# Altium footprint library PCB - CRYSTALS - ECS ECS-80-12-33-JGN-TR.PCBLIB: 1 footprints
Each footprint in its own frame and in the unit in brackets; x right, y up, seen from the top. Pads: shape width x height; smd on the part's side, far side on the other; paste and mask are expansions set on the pad; w line width, h text height; cw(c..) or ccw(c..) is an arc to the next point about the centre after c.
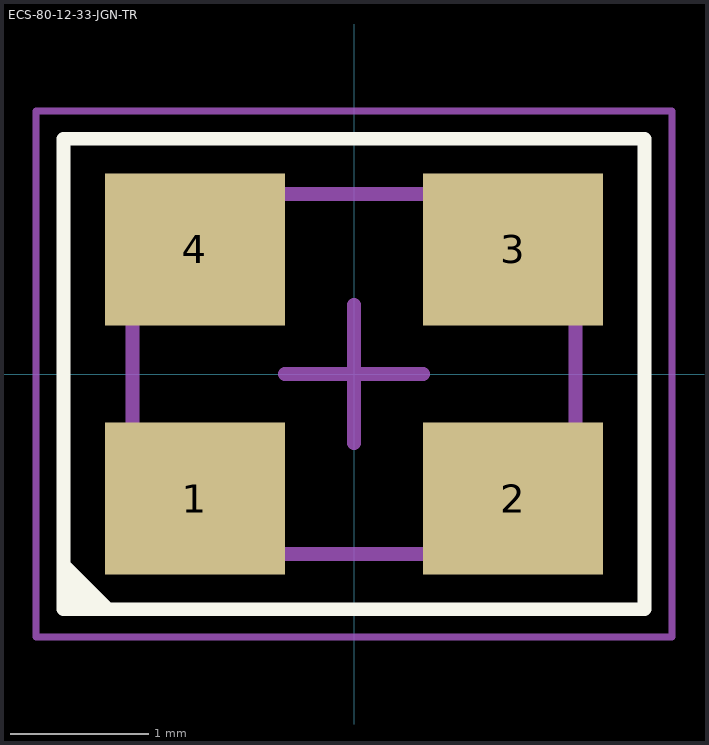
[diagram p0: the footprint, top view; thin cyan lines are the x and y axes]

## ECS-80-12-33-JGN-TR [mm] "Crystal, 4-Leads, Body 3.20x2.50mm, IPC Medium Density"
height 0.8
pads (4):
  rect 1.3x1.1 smd mask+0.05: 1(-1.15,-0.9) 2(1.15,-0.9) 3(1.15,0.9) 4(-1.15,0.9)
Top Overlay:
  region: -2.1,-1.7 -2.1,-1.311 -1.711,-1.7
  lines w0.1: -2.1,-1.7 2.1,-1.7 2.1,1.7 -2.1,1.7 -2.1,-1.7
Mechanical 13:
  lines w0.1: -1.601,-1.3 -1.601,1.3 1.6,1.3 1.6,-1.3 -1.601,-1.3
Mechanical 15:
  lines w0.05: -2.3,-1.9 -2.3,1.9 2.3,1.9 2.3,-1.9 -2.3,-1.9
  lines w0.1: -0.5,0 0.5,0 ; 0,-0.5 0,0.5
3D body "ECS ECS-80-12-33-JGN-TR.STEP": height 0.8, standoff 0, extent -1.6,-1.25 1.6,1.25